# Altium schematic symbol library mems.SchLib: 9 symbols
Pins are listed as number, name and electrical type; pins without a type are passive.

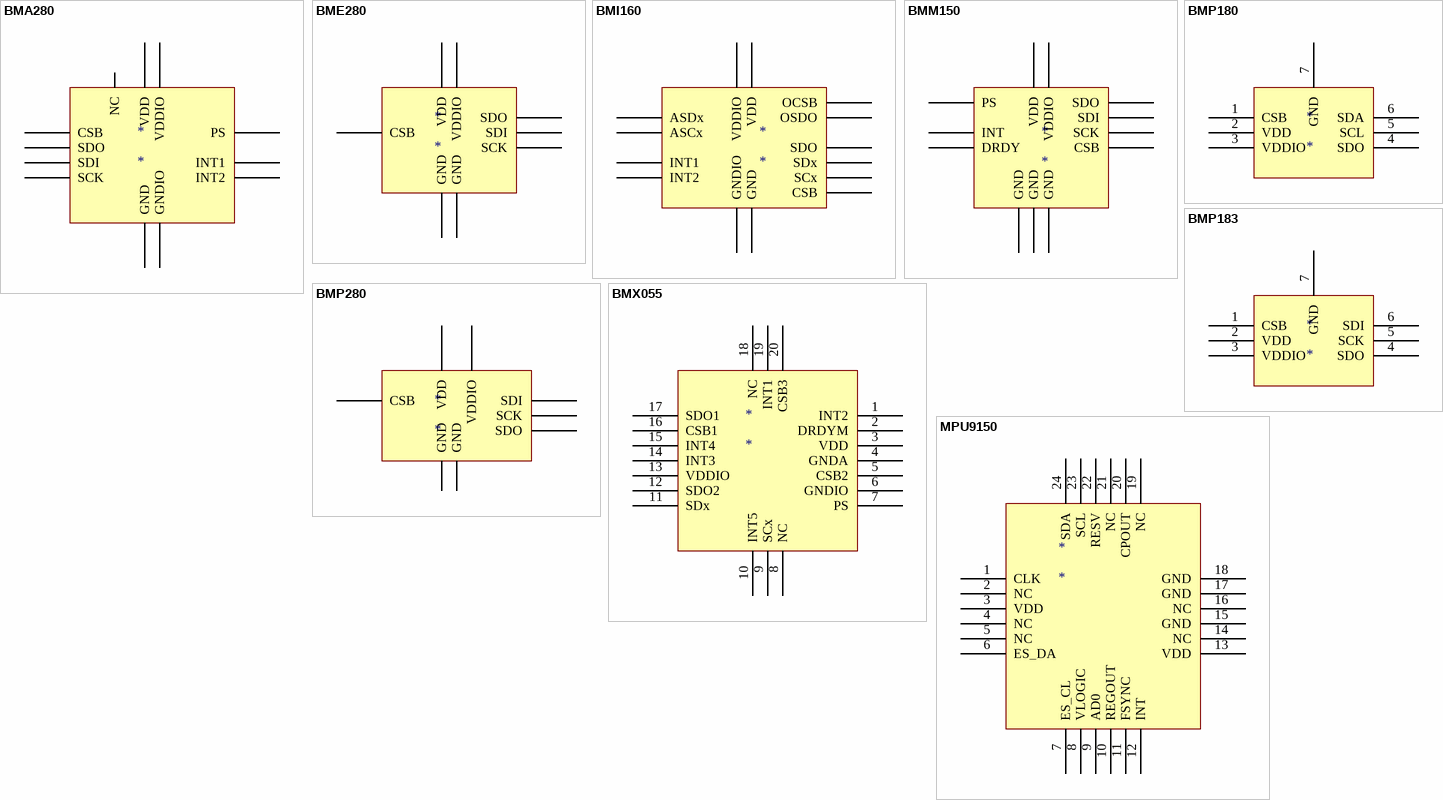
[diagram p0: symbols BMA280 to MPU9150]

## BMA280
designator *
footprint BMA280
pins: 1 SDO, 2 SDI, 3 VDDIO, 4 NC, 5 INT1, 6 INT2, 7 VDD, 8 GNDIO, 9 GND, 10 CSB, 11 PS, 12 SCK

## BME280
designator *
footprint BME280
pins: 1 GND, 2 CSB, 3 SDI, 4 SCK, 5 SDO, 6 VDDIO, 7 GND, 8 VDD

## BMI160
designator *
footprint BMI160
pins: 1 SDO, 2 ASDx, 3 ASCx, 4 INT1, 5 VDDIO, 6 GNDIO, 7 GND, 8 VDD, 9 INT2, 10 OCSB, 11 OSDO, 12 CSB, 13 SCx, 14 SDx

## BMM150
designator *
footprint BMM150
pins: A1 PS, A3 SCK, A5 CSB, B2 VDDIO, B4 SDI, C1 SDO, C5 GND, D2 INT, D4 DRDY, E1 GND, E3 GND, E5 VDD

## BMP180
designator *
footprint BMP180
pins: 1 CSB, 2 VDD, 3 VDDIO, 4 SDO, 5 SCL, 6 SDA, 7 GND

## BMP183
designator *
footprint BMP183
pins: 1 CSB, 2 VDD, 3 VDDIO, 4 SDO, 5 SCK, 6 SDI, 7 GND

## BMP280
designator *
footprint BMP280
pins: 1 GND, 2 CSB, 3 SDI, 4 SCK, 5 SDO, 6 VDDIO, 7 GND, 8 VDD

## BMX055
designator *
footprint BMX055
pins: 1 INT2, 2 DRDYM, 3 VDD, 4 GNDA, 5 CSB2, 6 GNDIO, 7 PS, 8 NC, 9 SCx, 10 INT5, 11 SDx, 12 SDO2, 13 VDDIO, 14 INT3, 15 INT4, 16 CSB1, 17 SDO1, 18 NC, 19 INT1, 20 CSB3

## MPU9150
designator *
footprint MPU9150
pins: 1 CLK, 2 NC, 3 VDD, 4 NC, 5 NC, 6 ES_DA, 7 ES_CL, 8 VLOGIC, 9 AD0, 10 REGOUT, 11 FSYNC, 12 INT, 13 VDD, 14 NC, 15 GND, 16 NC, 17 GND, 18 GND, 19 NC, 20 CPOUT, 21 NC, 22 RESV, 23 SCL, 24 SDA